# Altium schematic symbol library 79XX.SchLib: 1 symbol
Pins are listed as number, name and electrical type; pins without a type are passive.

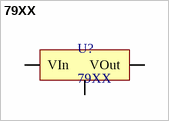
[diagram p0: symbol 79XX]

## 79XX
designator U?
pins: 1 GND, 2 VIn, 3 VOut